# Altium footprint library IFX-PG-TTFN-9-1-V.PcbLib: 1 footprints
Each footprint in its own frame and in the unit in brackets; x right, y up, seen from the top. Pads: shape width x height; smd on the part's side, far side on the other; paste and mask are expansions set on the pad; w line width, h text height; cw(c..) or ccw(c..) is an arc to the next point about the centre after c.
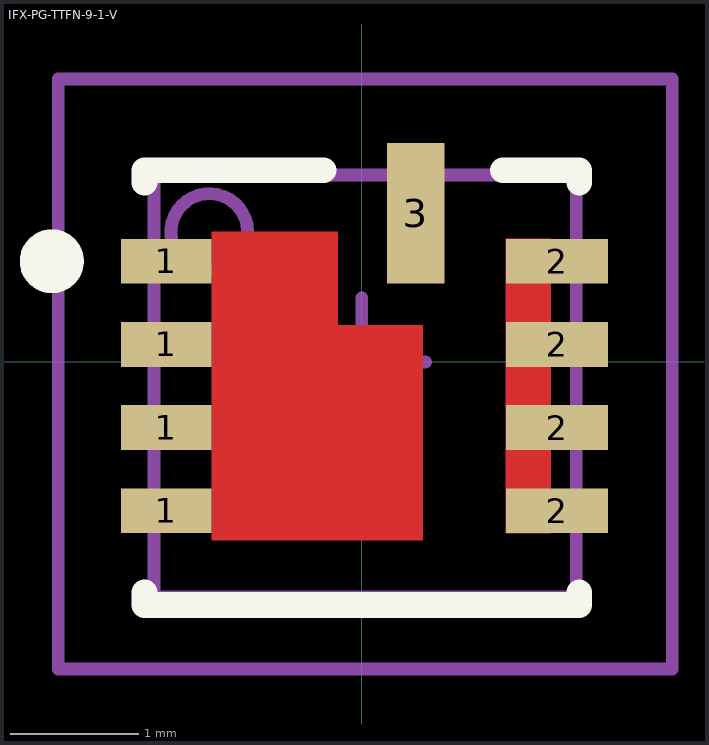
[diagram p0: the footprint, top view; thin cyan lines are the x and y axes]

## IFX-PG-TTFN-9-1-V [mm] "TTFN-9-1, 0.65 mm pitch, 9 pin, 3.30mm L X 3.30mm W X 1.10mm H body"
height 1.1
pads (9):
  rect 0.71x0.35 smd paste-0.35 mask+0: 1(-1.528,-1.162) 1(-1.528,-0.513) 1(-1.528,0.138) 1(-1.528,0.787)
  rect 0.8x0.35 smd paste-0.4 mask+0: 2(1.528,-1.162) 2(1.528,-0.513) 2(1.528,0.138) 2(1.528,0.787)
  rect 0.45x1.1 smd paste-0.55 mask+0: 3(0.423,1.162)
Top Layer:
  region: 1.128,0.963 1.478,0.963 1.478,-1.337 1.128,-1.337
  region: 0.477,-1.392 -1.172,-1.392 -1.172,1.017 -0.188,1.017 -0.188,0.288 0.477,0.288
Top Overlay:
  circle w0.25: c-2.422,0.787 r0.125
  lines w0.2: -1.697,-1.8 -1.697,-1.9 1.702,-1.9 1.702,-1.8 ; -1.697,1.4 -1.697,1.5 -0.298,1.5 ; 1.102,1.5 1.702,1.5 1.702,1.4
Top Paste:
  region: -1.847,-0.362 -1.847,-0.662 -1.278,-0.662 -1.278,-0.362
  region: -1.847,-1.012 -1.847,-1.312 -1.278,-1.312 -1.278,-1.012
  region: -1.847,0.288 -1.847,-0.012 -1.278,-0.012 -1.278,0.288
  region: -1.847,0.938 -1.847,0.638 -1.278,0.638 -1.278,0.938
  region: 0.623,1.082 0.623,0.662 0.223,0.662 0.223,1.082
  region: 0.623,1.652 0.623,1.232 0.223,1.232 0.223,1.652
  region: 0.433,-1.352 -0.068,-1.352 -0.068,0.248 0.433,0.248
  region: 1.903,0.938 1.903,0.638 1.503,0.638 1.503,0.938
  region: 1.903,0.288 1.903,-0.012 1.503,-0.012 1.503,0.288
  region: 1.903,-0.362 1.903,-0.662 1.503,-0.662 1.503,-0.362
  region: 1.903,-1.012 1.903,-1.312 1.503,-1.312 1.503,-1.012
  region: -1.127,0.978 -1.127,-0.122 -0.747,-0.122 -0.747,0.978
  region: -1.127,-0.252 -1.127,-1.352 -0.747,-1.352 -0.747,-0.252
  region: -0.597,-0.252 -0.597,-1.352 -0.218,-1.352 -0.218,-0.252
  region: -0.597,0.978 -0.597,-0.122 -0.218,-0.122 -0.218,0.978
  region: 1.373,-1.312 1.152,-1.312 1.152,-0.252 1.373,-0.252
  region: 1.373,-0.122 1.152,-0.122 1.152,0.938 1.373,0.938
M13 (CMP_Body_OTL_Top):
  circle w0.1: c-1.191,1.016 r0.3
  lines w0.1: -1.622,-1.837 1.677,-1.837 1.677,1.462 -1.622,1.462 -1.622,-1.837
M15 (CMP_Courtyard_Top):
  lines w0.1: -0.5,0 0.5,0 ; 0,-0.5 0,0.5 ; -2.372,-2.4 -2.372,2.212 2.427,2.212 2.427,-2.4 -2.372,-2.4
3D body "PG-TTFN-9-1_Z8B00191376_V03_3D.stp": height 1.11, standoff 0, extent -1.623,-1.837 1.677,1.463